# Altium schematic symbol library Interface.SchLib: 11 symbols
Pins are listed as number, name and electrical type; pins without a type are passive.

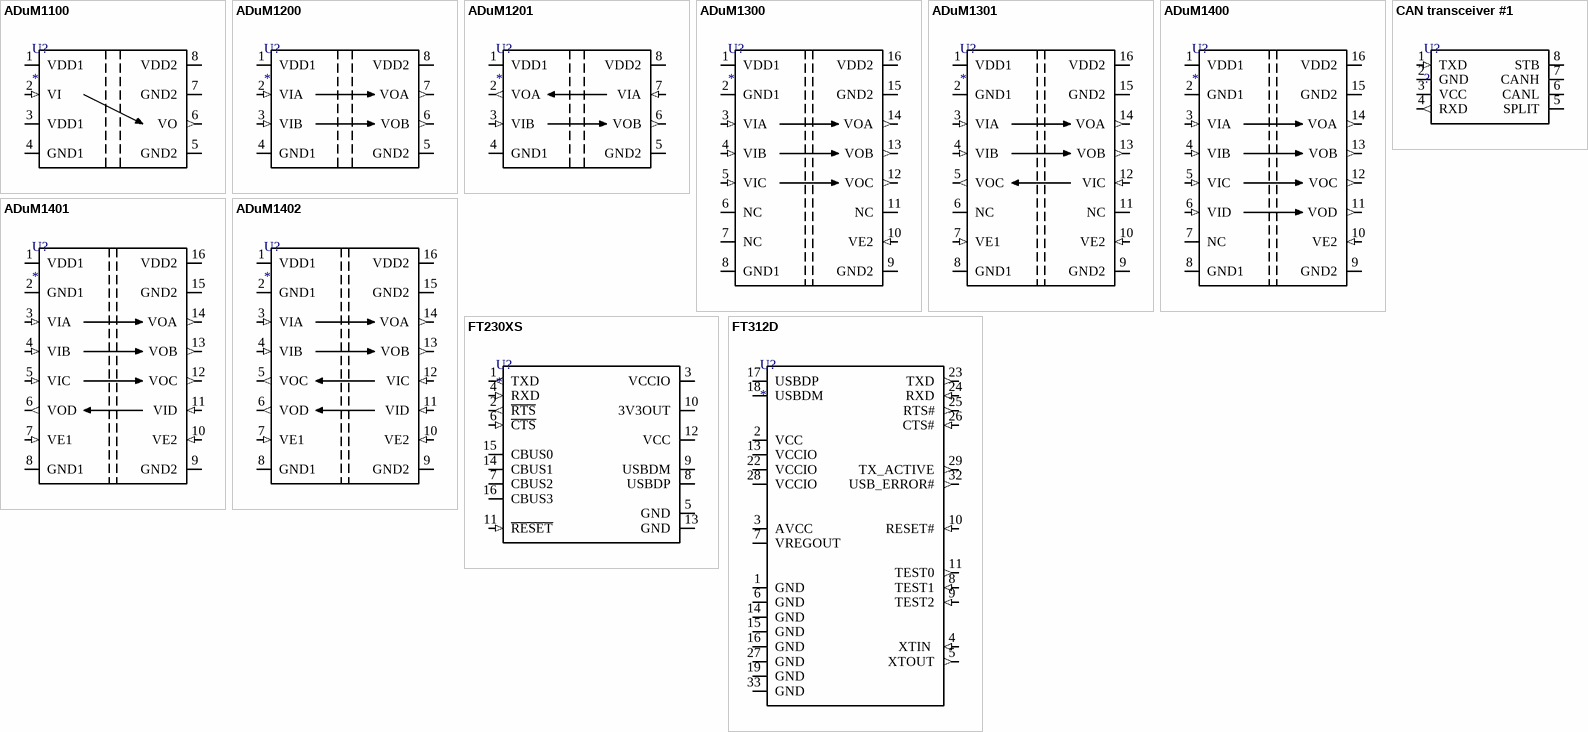
[diagram p0: symbols ADuM1100 to FT312D]

## ADuM1100
designator U?
Digital Isolator 2 channels; Name: *
pins: 1 VDD1 (power), 2 VI (in), 3 VDD1 (power), 4 GND1 (power), 5 GND2 (power), 6 VO (out), 7 GND2 (power), 8 VDD2 (power)

## ADuM1200
designator U?
Digital Isolator 2 channels; Name: *
pins: 1 VDD1 (power), 2 VIA (in), 3 VIB (in), 4 GND1 (power), 5 GND2 (power), 6 VOB (out), 7 VOA (out), 8 VDD2 (power)

## ADuM1201
designator U?
Digital Isolator 2 channels; Name: *
pins: 1 VDD1 (power), 2 VOA (out), 3 VIB (in), 4 GND1 (power), 5 GND2 (power), 6 VOB (out), 7 VIA (in), 8 VDD2 (power)

## ADuM1300
designator U?
Digital Isolator 3 channels; Name: *
pins: 1 VDD1 (power), 2 GND1 (power), 3 VIA (in), 4 VIB (in), 5 VIC (in), 6 NC, 7 NC, 8 GND1 (power), 9 GND2 (power), 10 VE2 (in), 11 NC, 12 VOC (out), 13 VOB (out), 14 VOA (out), 15 GND2 (power), 16 VDD2 (power)

## ADuM1301
designator U?
Digital Isolator 3 channels; Name: *
pins: 1 VDD1 (power), 2 GND1 (power), 3 VIA (in), 4 VIB (in), 5 VOC (out), 6 NC, 7 VE1 (in), 8 GND1 (power), 9 GND2 (power), 10 VE2 (in), 11 NC, 12 VIC (in), 13 VOB (out), 14 VOA (out), 15 GND2 (power), 16 VDD2 (power)

## ADuM1400
designator U?
Digital Isolator 3 channels; Name: *
pins: 1 VDD1 (power), 2 GND1 (power), 3 VIA (in), 4 VIB (in), 5 VIC (in), 6 VID (in), 7 NC, 8 GND1 (power), 9 GND2 (power), 10 VE2 (in), 11 VOD (out), 12 VOC (out), 13 VOB (out), 14 VOA (out), 15 GND2 (power), 16 VDD2 (power)

## ADuM1401
designator U?
Digital Isolator 3 channels; Name: *
pins: 1 VDD1 (power), 2 GND1 (power), 3 VIA (in), 4 VIB (in), 5 VIC (in), 6 VOD (out), 7 VE1 (in), 8 GND1 (power), 9 GND2 (power), 10 VE2 (in), 11 VID (in), 12 VOC (out), 13 VOB (out), 14 VOA (out), 15 GND2 (power), 16 VDD2 (power)

## ADuM1402
designator U?
Digital Isolator 3 channels; Name: *
pins: 1 VDD1 (power), 2 GND1 (power), 3 VIA (in), 4 VIB (in), 5 VOC (out), 6 VOD (out), 7 VE1 (in), 8 GND1 (power), 9 GND2 (power), 10 VE2 (in), 11 VID (in), 12 VIC (in), 13 VOB (out), 14 VOA (out), 15 GND2 (power), 16 VDD2 (power)

## CAN transceiver #1
designator U?, comment ?
CAN transceiver with standby; Part Number: ?; Name: ?
pins: 1 TXD (in), 2 GND (power), 3 VCC (power), 4 RXD (out), 5 SPLIT (power), 6 CANL (io), 7 CANH (io), 8 STB (io)

## FT230XS
designator U?
pins: 1 TXD (out), 2 ~{RTS} (out), 3 VCCIO (power), 4 RXD (in), 5 GND (power), 6 ~{CTS} (in), 7 CBUS2 (io), 8 USBDP (io), 9 USBDM (io), 10 3V3OUT (power), 11 ~{RESET} (in), 12 VCC (power), 13 GND (power), 14 CBUS1 (io), 15 CBUS0 (io), 16 CBUS3 (io)

## FT312D
designator U?
Name: *; Part Number: *
pins: 1 GND (power), 2 VCC (power), 3 AVCC (power), 4 XTIN  (in), 5 XTOUT (out), 6 GND (power), 7 VREGOUT (power), 8 TEST1 (in), 9 TEST2 (in), 10 RESET# (in), 11 TEST0 (out), 13 VCCIO (power), 14 GND (power), 15 GND (power), 16 GND (power), 17 USBDP (io), 18 USBDM (io), 19 GND (power), 22 VCCIO (power), 23 TXD (out), 24 RXD (in), 25 RTS# (out), 26 CTS# (in), 27 GND (power), 28 VCCIO (power), 29 TX_ACTIVE (out), 32 USB_ERROR# (out), 33 GND (power)